# Altium schematic symbol library MolexMicroFit3_3_POS.SchLib: 1 symbol
Pins are listed as number, name and electrical type; pins without a type are passive.

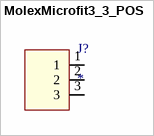
[diagram p0: symbol MolexMicrofit3_3_POS]

## MolexMicrofit3_3_POS
designator J?
CONN HEADER SMD 3POS 3MM / Manufacturer PN: 0436500324
footprint MolexMicroFit3_3_POS
pins: 1, 2, 3